# EAGLE library part ATWINC1500-MR210PB (library ATWINC1500-MR210PB WiFi Module)
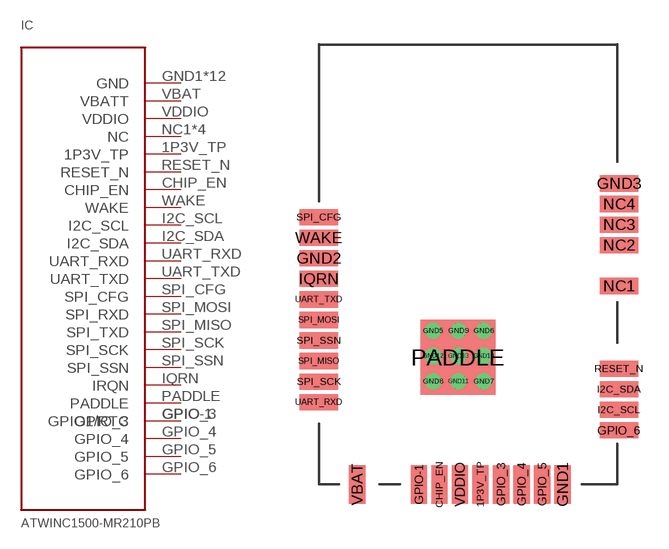
[diagram p0: symbol with the pads of SMT; footprint SMT]

Designator prefix IC

## ATWINC1500-MR210PB  [SMT]
1P3V_TP  1P3V_TP
CHIP_EN  CHIP_EN
GND1  GND
GND2  GND
GND3  GND
GND5  GND
GND6  GND
GND7  GND
GND8  GND
GND9  GND
GND10  GND
GND11  GND
GND12  GND
GND13  GND
GPIO-1  GPIO1/RTC
GPIO_3  GPIO_3
GPIO_4  GPIO_4
GPIO_5  GPIO_5
GPIO_6  GPIO_6
I2C_SCL  I2C_SCL
I2C_SDA  I2C_SDA
IQRN  IRQN
NC1  NC
NC2  NC
NC3  NC
NC4  NC
PADDLE  PADDLE
RESET_N  RESET_N
SPI_CFG  SPI_CFG
SPI_MISO  SPI_TXD
SPI_MOSI  SPI_RXD
SPI_SCK  SPI_SCK
SPI_SSN  SPI_SSN
UART_RXD  UART_RXD
UART_TXD  UART_TXD
VBAT  VBATT
VDDIO  VDDIO
WAKE  WAKE

## Footprint SMT (pad centres in mm)
smd 0.8 x 1.9: 1P3V_TP 7.996,0; CHIP_EN 5.964,0; GND1 12.06,0; GPIO-1 4.948,0; GPIO_3 9.012,0; GPIO_4 10.028,0; GPIO_5 11.044,0; VBAT 1.9,0; VDDIO 6.98,0
smd 1.9 x 0.8: GND2 0,11.176; GND3 14.848,14.872; GPIO_6 14.838,2.67; I2C_SCL 14.838,3.686; I2C_SDA 14.838,4.702; IQRN 0,10.16; NC1 14.85,9.808; NC2 14.848,11.824; NC3 14.848,12.84; NC4 14.848,13.856; RESET_N 14.838,5.718; SPI_CFG 0,13.208; SPI_MISO 0,6.096; SPI_MOSI 0,8.128; SPI_SCK 0,5.08; SPI_SSN 0,7.112; UART_RXD 0,4.064; UART_TXD 0,9.144; WAKE 0,12.192
drill 0.3: GND5 5.654,7.596; GND6 8.154,7.596; GND7 8.154,5.096; GND8 5.654,5.096; GND9 6.904,7.596; GND10 8.154,6.346; GND11 6.904,5.096; GND12 5.654,6.346; GND13 6.904,6.346
smd 3.7 x 3.7: PADDLE 6.874,6.282